# EAGLE library part NCP5661 (library comma.ai)
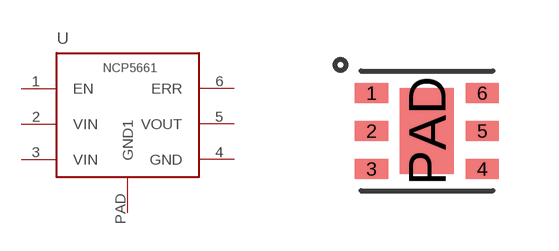
[diagram p36: symbol with the pads of DFN6; footprint DFN6]

Designator prefix U

## NCP5661  [DFN6]
1  EN
2  VIN
3  VIN
4  GND
5  VOUT
6  ERR
PAD  GND1

## Footprint DFN6 (pad centres in mm)
smd 0.83 x 0.5: 1 -1.385,0.95; 2 -1.385,0; 3 -1.385,-0.95; 4 1.385,-0.95; 5 1.385,0; 6 1.385,0.95
smd 1.35 x 2.15: PAD 0,0